# Altium schematic symbol library RES-SM-0603-0R.Schlib: 1 symbol
Pins are listed as number, name and electrical type; pins without a type are passive.

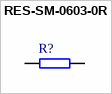
[diagram p0: symbol RES-SM-0603-0R]

## RES-SM-0603-0R
designator R?, comment Resistor  (value not drawn)
RES SM 0603 0R
pins: 1, 2